# Altium schematic symbol library SCH - ETHERNET - NXP TJA1100.Schlib: 1 symbol
Pins are listed as number, name and electrical type; pins without a type are passive.

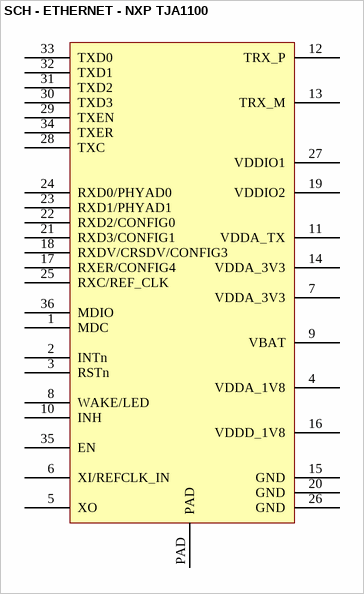
[diagram p0: symbol SCH - ETHERNET - NXP TJA1100]

## SCH - ETHERNET - NXP TJA1100
designator ?
footprint HVQFN36 (plastic themal enhanced very thin quad flat package; no leads; 36 terminals; body 6 x 6 x 0.85mm)
pins: 1 MDC, 2 INTn, 3 RSTn, 4 VDDA_1V8, 5 XO, 6 XI/REFCLK_IN, 7 VDDA_3V3, 8 WAKE/LED, 9 VBAT, 10 INH, 11 VDDA_TX, 12 TRX_P, 13 TRX_M, 14 VDDA_3V3, 15 GND, 16 VDDD_1V8, 17 RXER/CONFIG4, 18 RXDV/CRSDV/CONFIG3, 19 VDDIO2, 20 GND, 21 RXD3/CONFIG1, 22 RXD2/CONFIG0, 23 RXD1/PHYAD1, 24 RXD0/PHYAD0, 25 RXC/REF_CLK, 26 GND, 27 VDDIO1, 28 TXC, 29 TXEN, 30 TXD3, 31 TXD2, 32 TXD1, 33 TXD0, 34 TXER, 35 EN, 36 MDIO, PAD